# Altium footprint library MotorControl-V4.0.PcbLib: 26 footprints (part 2 of 2)
Each footprint in its own frame and in the unit in brackets; x right, y up, seen from the top. Pads: shape width x height; smd on the part's side, far side on the other; paste and mask are expansions set on the pad; w line width, h text height; cw(c..) or ccw(c..) is an arc to the next point about the centre after c.
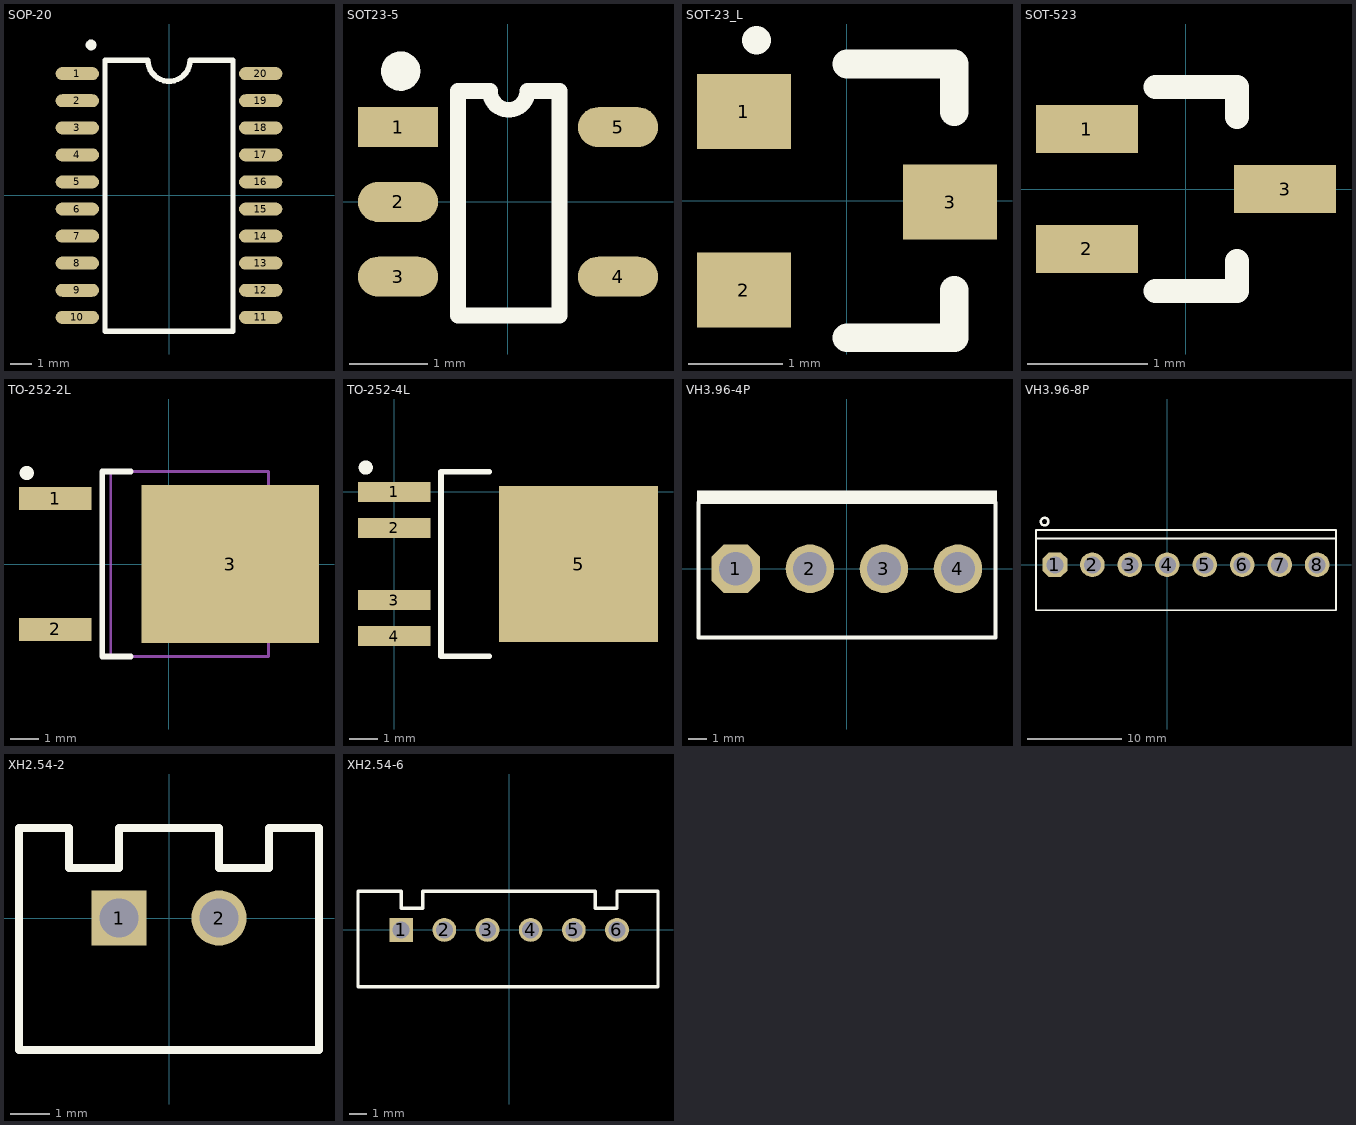
[diagram p1: the footprints below, top view; thin cyan lines are the x and y axes]

## SOP-20 [mil]
pads (20):
  oval 80x24 smd: 1(-169.29,225) 2(-169.29,175) 3(-169.29,125) 4(-169.29,75) 5(-169.29,25) 6(-169.29,-25) 7(-169.29,-75) 8(-169.29,-125) 9(-169.29,-175) 10(-169.29,-225) 11(169.29,-225) 12(169.29,-175) 13(169.29,-125) 14(169.29,-75) 15(169.29,-25) 16(169.29,25) 17(169.29,75) 18(169.29,125) 19(169.29,175) 20(169.29,225)
Top Overlay:
  circle w9.84: c-143.92,278 r4.92
  lines w10: -118.11,-251 -118.11,250 -39,250 ccw(c0,250) 39,250 118.11,250 118.11,-251 -118.11,-251

## SOT23-5 [mil] "SOT23, 5-Leads, Body 3.1x3.0mm (max), Pitch 0.95mm, IPC Medium Density"
height 43.31
pads (5):
  rect 40x20 smd: 1(-55,37.4)
  oval 40x20 smd: 2(-55,0) 3(-55,-37.4) 4(55,-37.4) 5(55,37.4)
Top Overlay:
  circle w9.84: c-53.66,65.4 r4.92
  lines w7.87: -25,55.4 -25,-56.8 25.7,-56.8 25.7,55.4 ; -9,55.4 ccw(c0.35,55.4) 9.7,55.4
  lines w8: -25,55.4 -9,55.4 ; 9.7,55.4 25.7,55.4

## SOT-23_L [mm]
pads (3):
  rect 1x0.8 smd: 1(-1.1,0.953) 2(-1.1,-0.953) 3(1.1,-0.013)
Top Overlay:
  lines w0.305: 0,-1.46 1.143,-1.46 1.143,-0.953 ; 0,1.46 1.143,1.46 1.143,0.952 ; -0.965,1.714 -0.965,1.714

## SOT-523 [mm] "SOT23, 3-Leads, Body 1.7x1.8mm (max), Pitch 0.50mm, IPC Medium Density"
height 0.9
pads (3):
  rect 0.85x0.4 smd: 1(-0.825,0.5) 2(-0.825,-0.5) 3(0.825,0)
Top Overlay:
  lines w0.2: -0.254,-0.85 0.425,-0.85 0.425,-0.6 ; -0.254,0.85 0.425,0.85 0.425,0.6

## TO-252-2L [mm]
pads (3):
  rect 2.55x0.8 smd: 1(-4,2.3) 2(-4,-2.3)
  rect 6.25x5.55 smd: 3(2.15,0)
Top Overlay:
  circle w0.25: c-5,3.2 r0.125
  lines w0.2: -1.35,-3.25 -2.35,-3.25 -2.35,3.25 -1.35,3.25
Mechanical 15:
  lines w0.1: 3.5,-2.668 3.946,-2.668 4.85,-1.666 4.85,1.666 3.946,2.668 3.5,2.668 ; -2.05,-3.25 3.5,-3.25 3.5,3.25 -2.05,3.25 -2.05,-3.25

## TO-252-4L [mm]
pads (5):
  rect 2.55x0.7 smd: 1(0,0) 2(0,-1.27) 3(0,-3.81) 4(0,-5.08)
  rect 5.6x5.5 smd: 5(6.5,-2.54)
Top Overlay:
  circle w0.25: c-1,0.86 r0.125
  lines w0.2: 3.35,-5.79 1.65,-5.79 1.65,0.71 3.35,0.71

## VH3.96-4P [mm]
pads (4):
  oct 2.6x2.6 hole 1.8: 1(-5.94,0)
  round 2.6 hole 1.8: 2(-1.98,0) 3(1.98,0) 4(5.94,0)
Top Overlay:
  rectangle: -8.023,3.556 8.03,4.191
  lines w0.2: -7.947,-3.683 -7.947,3.556 7.954,3.556 7.954,-3.683 -7.947,-3.683

## VH3.96-8P [mm]
pads (8):
  oct 2.6x2.6 hole 1.8: 1(-11.88,0)
  round 2.6 hole 1.8: 2(-7.92,0) 3(-3.96,0) 4(0,0) 5(3.96,0) 6(7.92,0) 7(11.88,0) 8(15.84,0)
Top Overlay:
  circle w0.254: c-12.975,4.572 r0.402
  lines w0.2: -13.887,2.794 17.84,2.794 ; -13.887,-4.8 17.84,-4.8 17.84,3.7 -13.887,3.7 -13.887,-4.8

## XH2.54-2 [mm]
pads (2):
  rect 1.4x1.4 hole 1: 1(-1.27,0)
  round 1.4 hole 1: 2(1.27,0)
Top Overlay:
  lines w0.2: 2.921,2.286 3.81,2.286 ; 3.81,-3.353 -3.81,-3.353 -3.81,-1.27 -3.81,2.286 -2.54,2.286 -2.54,1.27 -1.27,1.27 -1.27,2.286 1.27,2.286 1.27,1.27 2.54,1.27 2.54,2.286 3.81,2.286 ; 3.81,-3.302 3.81,2.286

## XH2.54-6 [mm]
pads (6):
  rect 1.4x1.4 hole 1: 1(-6.35,0)
  round 1.4 hole 1: 2(-3.81,0) 3(-1.27,0) 4(1.27,0) 5(3.81,0) 6(6.35,0)
Top Overlay:
  lines w0.2: -8.89,-3.353 8.763,-3.353 8.763,2.286 6.35,2.286 6.35,1.27 5.08,1.27 5.08,2.286 -5.08,2.286 -5.08,1.27 -6.35,1.27 -6.35,2.286 -8.89,2.286 -8.89,-1.27 -8.89,-3.353